# Altium footprint library ElectroMechanical.PcbLib: 5 footprints
Each footprint in its own frame and in the unit in brackets; x right, y up, seen from the top. Pads: shape width x height; smd on the part's side, far side on the other; paste and mask are expansions set on the pad; w line width, h text height; cw(c..) or ccw(c..) is an arc to the next point about the centre after c.
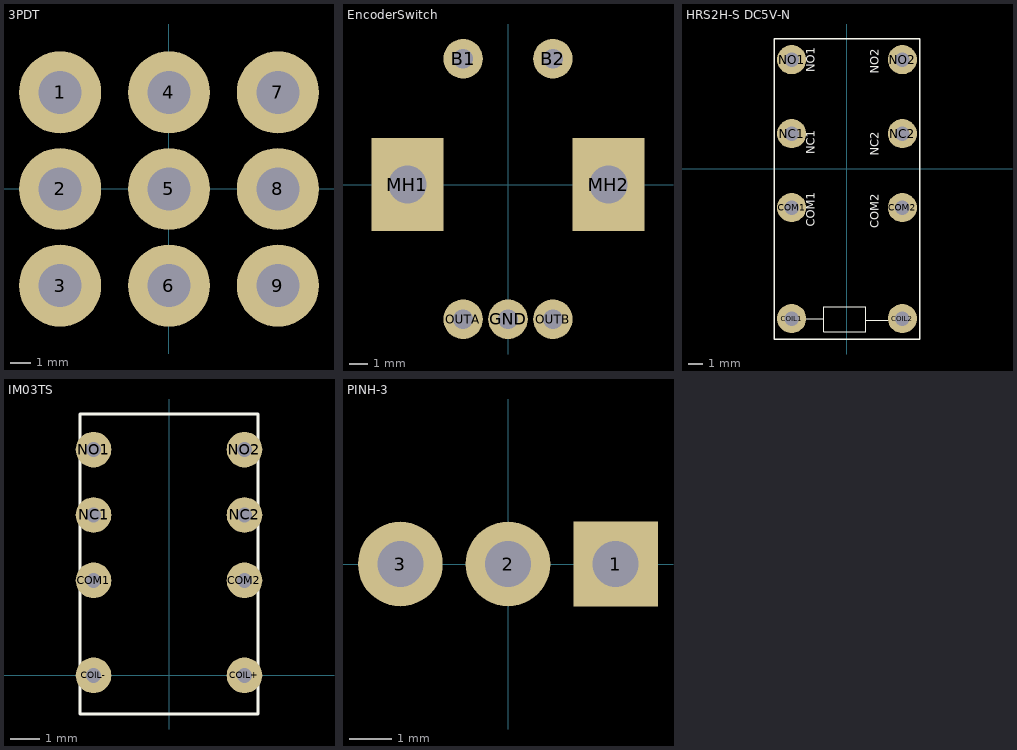
[diagram p0: the footprints below, top view; thin cyan lines are the x and y axes]

## 3PDT [mm] "3PDT"
pads (9):
  round 4 hole 2.1: 1(-5.3,4.7) 2(-5.3,0) 3(-5.3,-4.7) 4(0,4.7) 5(0,0) 6(0,-4.7) 7(5.3,4.7) 8(5.3,0) 9(5.3,-4.7)
3D body "3PDT.step": height 39.5, standoff -1.7, extent -9.9,-8.5 9.7,8.5

## EncoderSwitch [mm] "Encoder with switch"
pads (7):
  round 2.2 hole 1.1: B1(-2.5,7) B2(2.5,7) GND(0,-7.5) OUTA(-2.5,-7.5) OUTB(2.5,-7.5)
  rect 4x5.2 hole 2.1 square: MH1(-5.6,0) MH2(5.6,0)
3D body "EC11E12-15P30C-SW.stp": height 16.5, standoff -3.5, extent -6.23,-7.55 6.23,7.05

## HRS2H-S DC5V-N [mm] "HRS2H-S DC5V-N"
pads (8):
  round 2 hole 1: COIL1(-3.8,-10.3) COIL2(3.8,-10.3) COM1(-3.8,-2.68) COM2(3.8,-2.68) NC1(-3.8,2.4) NC2(3.8,2.4) NO1(-3.8,7.48) NO2(3.8,7.48)
Top Overlay:
  lines w0.05: -3.8,-10.3 -1.6,-10.3 ; -3.8,2.4 -3.4,2.4 ; 1.3,-10.4 3.7,-10.4 ; -1.6,-10.3 -1.6,-11.2 1.3,-11.2 1.3,-9.5 -1.6,-9.5 -1.6,-10.3
  lines w0.1: -5,-11.7 5,-11.7 5,8.9 -5,8.9 -5,-11.7
  text "NO2" at 2.4,6.5 h1
  text "NO1" at -2,6.6 h1
  text "NC1" at -2,1 h1
  text "NC2" at 2.4,0.9 h1
  text "COM2" at 2.4,-4.1 h1
  text "COM1" at -2,-4 h1
3D body "HRS2H-S-DC5V-N.STEP": height 11.8, standoff -5, extent -4.95,-11.61 4.95,8.89

## IM03TS [mm] "IM03TS"
pads (8):
  round 1.2 hole 0.5: COIL+(2.54,0) COIL-(-2.54,0) COM1(-2.54,3.2) COM2(2.54,3.2) NC1(-2.54,5.4) NC2(2.54,5.4) NO1(-2.54,7.6) NO2(2.54,7.6)
Top Overlay:
  lines w0.1: -3,-1.3 -3,8.8 3,8.8 3,-1.3 -3,-1.3
3D body "IM03TS.stp": height 5.86, standoff -3.7, extent -3,-1.2 3,8.8

## PINH-3 [mm] "PINH-3"
pads (3):
  rect 2x2 hole 1.08: 1(2.54,0)
  round 2 hole 1.08: 2(0,0) 3(-2.54,0)